# Altium schematic symbol library kmilo17pet-LT_PMIC_LT.SchLib: 2252 symbols (part 72 of 124)
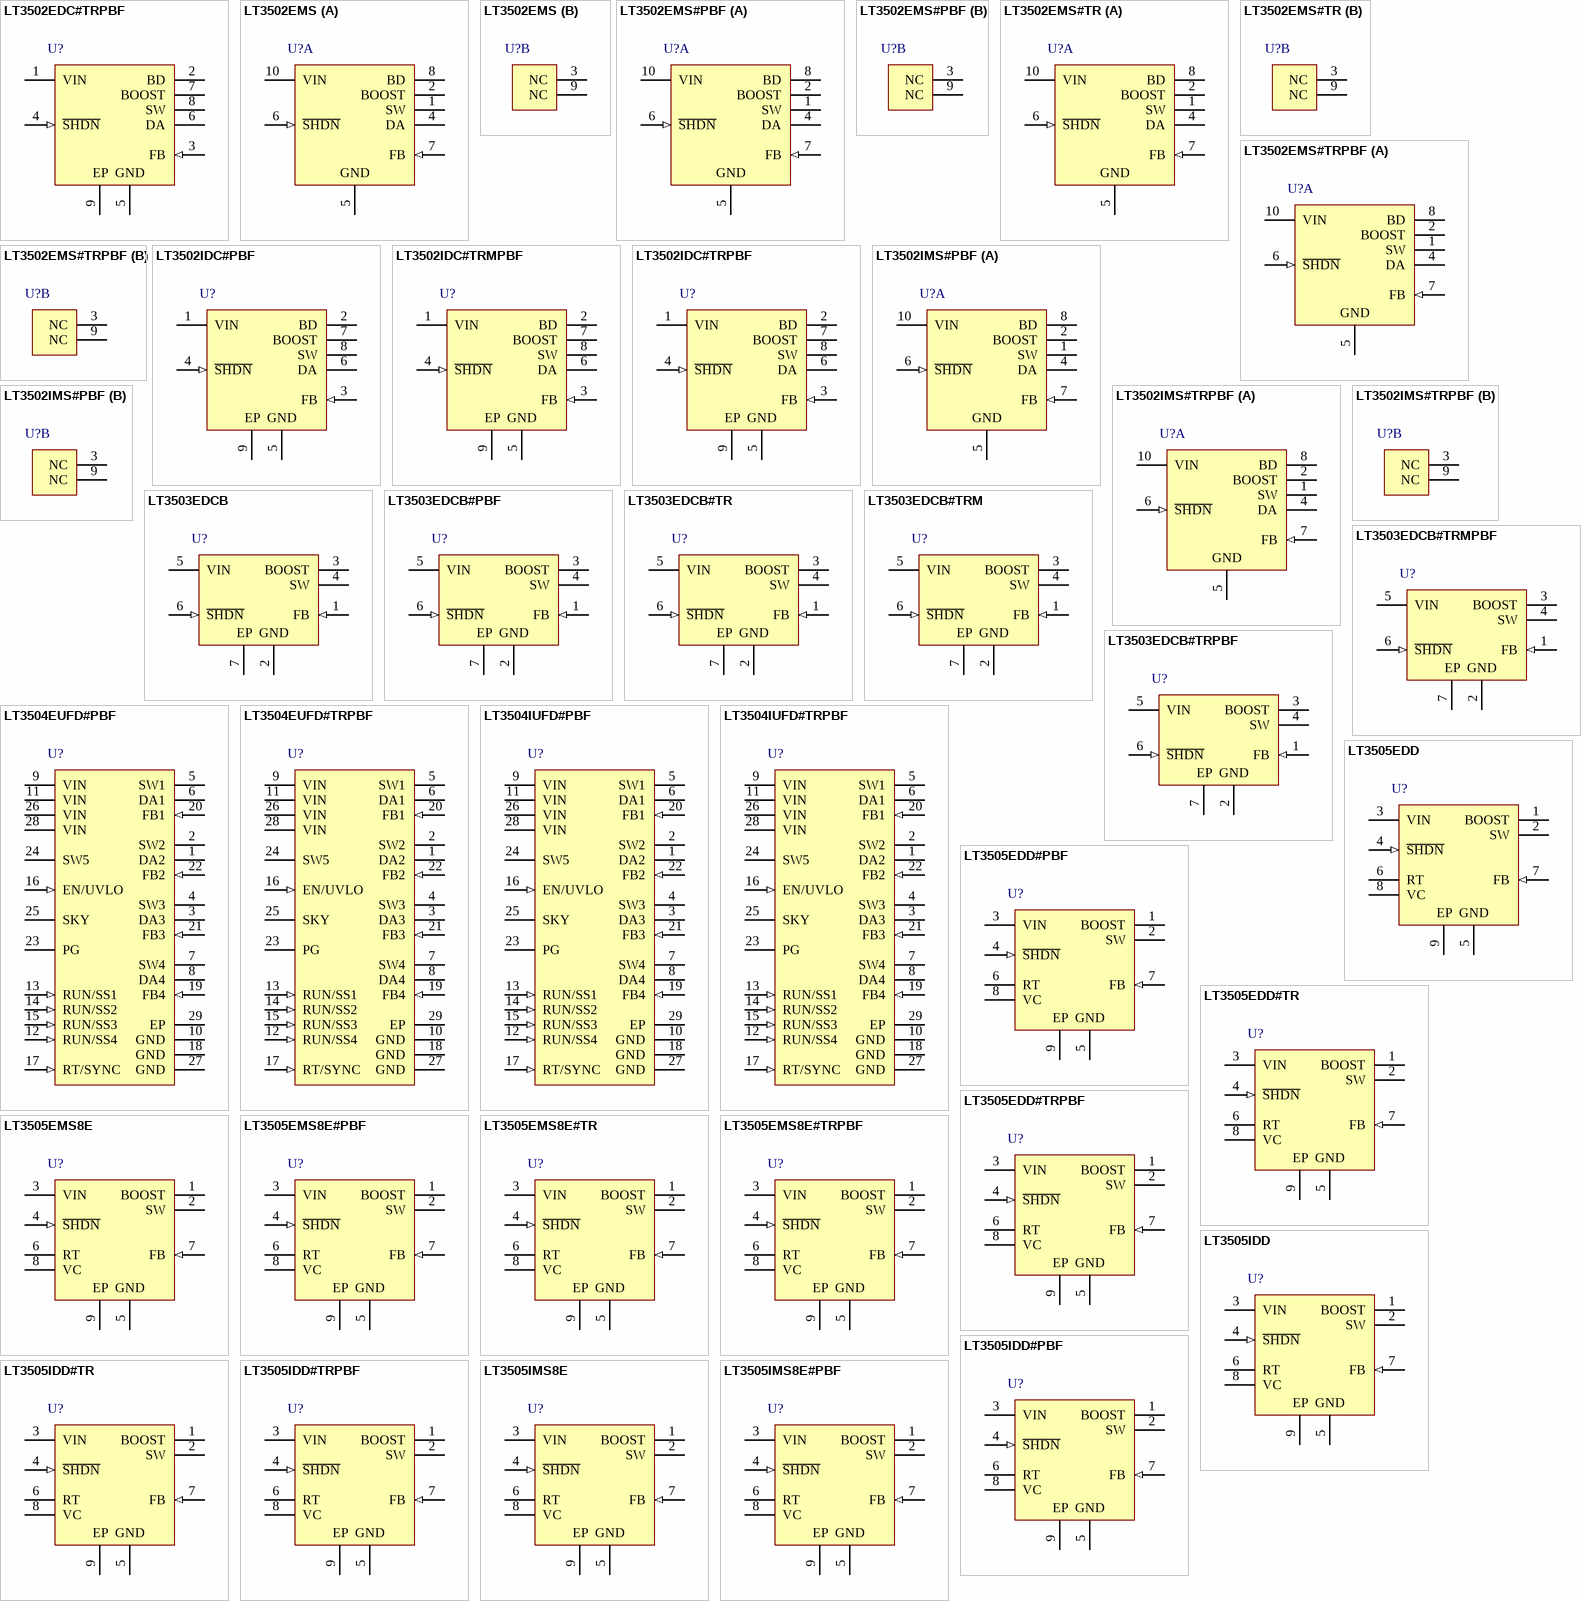
[diagram p142: symbols LT3502EDC#TRPBF to LT3505IMS8E#PBF]

## LT3502IDC#TRMPBF
designator U?
1.1 MHz / 2.2 MHz, 500 mA Step-Down Regulator, 8-pin SON (DC8), -40 to 125 degC, Pb-Free, Mini Tape and Reel; Manufacturer: Linear Technology; PartNumber: LT3502IDC#TRMPBF; Number of Outputs: 1; PackageReference: DC8; PackageDescription: 8-Pin Plastic DFN, Body 2 x 2 mm, Pitch 0.45 mm; Supplier 1: Digi-Key; Supplier Part Number 1: LT3502IDC#TRMPBFTR-ND; RoHS: TRUE
footprint LT-DC8_V (SON, 8-Leads, Body 2x2mm, Pitch 0.45mm, Thermal Pad 1.37x0.64mm, Recommended)
pins: 1 VIN (power) "The VIN pin supplies current to the LT3502/LT3502A’s internal regulator and to the internal power switch. This pin must be locally bypassed.", 2 BD (power) "The BD pin is used to provide current to the internal boost Schottky diode.", 3 FB (in) "The LT3502/LT3502A regulate their feedback pin to 0.8V. Connect the feedback resistor divider tap to this pin. Set the output voltage according to VOUT = 0.8 (1 + R1/R2). A good value for R2 is 10k.", 4 ~{SHDN} (in) "The S\H\D\N\ pin is used to put the LT3502 in shutdown mode. Tie to ground to shut down the LT3502/LT3502A. Tie to 2V or more for normal operation. If the shutdown feature is not used, tie this pin to the VIN pin. The (See Datasheet)", 5 GND (power) "Ground Pin.", 6 DA "Connect the catch diode (D1) anode to this pin. This pin is used to provide frequency foldback in extreme situations.", 7 BOOST "The BOOST pin is used to provide a drive voltage, higher than the input voltage, to the internal bipolar NPN power switch. Connect a boost capacitor from this pin to SW Pin.", 8 SW (power) "The SW pin is the output of the internal power switch. Connect this pin to the inductor, catch diode and boost capacitor.", 9 EP (power) "EXPOSED PAD (PIN 9) IS GND, MUST BE SOLDERED TO PCB"

## LT3502IDC#TRPBF
designator U?
1.1 MHz / 2.2 MHz, 500 mA Step-Down Regulator, 8-pin SON (DC8), -40 to 125 degC, Pb-Free, Tape and Reel; Manufacturer: Linear Technology; PartNumber: LT3502IDC#TRPBF; Number of Outputs: 1; PackageReference: DC8-8; PackageDescription: 8-Pin Plastic DFN, Body 2 x 2 mm, Pitch 0.45 mm; Supplier 1: Digi-Key; Supplier Part Number 1: LT3502IDC#TRPBF-ND; RoHS: TRUE
footprint LT-DC8-8_V (SON, 8-Leads, Body 2x2mm, Pitch 0.45mm, Thermal Pad 1.37x0.64mm)
pins: 1 VIN (power) "The VIN pin supplies current to the LT3502/LT3502A’s internal regulator and to the internal power switch. This pin must be locally bypassed.", 2 BD (power) "The BD pin is used to provide current to the internal boost Schottky diode.", 3 FB (in) "The LT3502/LT3502A regulate their feedback pin to 0.8V. Connect the feedback resistor divider tap to this pin. Set the output voltage according to VOUT = 0.8 (1 + R1/R2). A good value for R2 is 10k.", 4 ~{SHDN} (in) "The S\H\D\N\ pin is used to put the LT3502 in shutdown mode. Tie to ground to shut down the LT3502/LT3502A. Tie to 2V or more for normal operation. If the shutdown feature is not used, tie this pin to the VIN pin. The (See Datasheet)", 5 GND (power) "Ground Pin.", 6 DA "Connect the catch diode (D1) anode to this pin. This pin is used to provide frequency foldback in extreme situations.", 7 BOOST "The BOOST pin is used to provide a drive voltage, higher than the input voltage, to the internal bipolar NPN power switch. Connect a boost capacitor from this pin to SW Pin.", 8 SW (power) "The SW pin is the output of the internal power switch. Connect this pin to the inductor, catch diode and boost capacitor.", 9 EP (power) "EXPOSED PAD (PIN 9) IS GND, MUST BE SOLDERED TO PCB"

## LT3502IMS#PBF
designator U?
1.1 MHz / 2.2 MHz, 500 mA Step-Down Regulator, 10-pin SOP (MS-10), -40 to 125 degC, Pb-Free; Manufacturer: Linear Technology; PartNumber: LT3502IMS#PBF; Number of Outputs: 1; PackageReference: MS-10; PackageDescription: 10-Pin Plastic MSOP, Body 3 x 3 mm, Pitch 0.5 mm; Supplier 1: Digi-Key; Supplier Part Number 1: LT3502IMS#PBF-ND; RoHS: TRUE
footprint LT-MS-10_N (SOP, 10-Leads, Body 3.1x3.1mm, Pitch 0.5mm, IPC Medium Density)
footprint LT-MS-10_L (SOP, 10-Leads, Body 3.1x3.1mm, Pitch 0.5mm, IPC High Density)
footprint LT-MS-10_M (SOP, 10-Leads, Body 3.1x3.1mm, Pitch 0.5mm, IPC Low Density)
part A pins: 1 SW (power) "The SW pin is the output of the internal power switch. Connect this pin to the inductor, catch diode and boost capacitor.", 2 BOOST "The BOOST pin is used to provide a drive voltage, higher than the input voltage, to the internal bipolar NPN power switch. Connect a boost capacitor from this pin to SW Pin.", 4 DA "Connect the catch diode (D1) anode to this pin. This pin is used to provide frequency foldback in extreme situations.", 5 GND (power) "Ground Pin.", 6 ~{SHDN} (in) "The S\H\D\N\ pin is used to put the LT3502 in shutdown mode. Tie to ground to shut down the LT3502/LT3502A. Tie to 2V or more for normal operation. If the shutdown feature is not used, tie this pin to the VIN pin. The (See Datasheet)", 7 FB (in) "The LT3502/LT3502A regulate their feedback pin to 0.8V. Connect the feedback resistor divider tap to this pin. Set the output voltage according to VOUT = 0.8 (1 + R1/R2). A good value for R2 is 10k.", 8 BD (power) "The BD pin is used to provide current to the internal boost Schottky diode.", 10 VIN (power) "The VIN pin supplies current to the LT3502/LT3502A’s internal regulator and to the internal power switch. This pin must be locally bypassed."
part B pins: 3 NC, 9 NC

## LT3502IMS#TRPBF
designator U?
1.1 MHz / 2.2 MHz, 500 mA Step-Down Regulator, 10-pin SOP (MS-10), -40 to 125 degC, Pb-Free, Tape and Reel; Manufacturer: Linear Technology; PartNumber: LT3502IMS#TRPBF; Number of Outputs: 1; PackageReference: MS-10; PackageDescription: 10-Pin Plastic MSOP, Body 3 x 3 mm, Pitch 0.5 mm; Supplier 1: Digi-Key; Supplier Part Number 1: LT3502IMS#TRPBF-ND; RoHS: TRUE
footprint LT-MS-10_N (SOP, 10-Leads, Body 3.1x3.1mm, Pitch 0.5mm, IPC Medium Density)
footprint LT-MS-10_L (SOP, 10-Leads, Body 3.1x3.1mm, Pitch 0.5mm, IPC High Density)
footprint LT-MS-10_M (SOP, 10-Leads, Body 3.1x3.1mm, Pitch 0.5mm, IPC Low Density)
part A pins: 1 SW (power) "The SW pin is the output of the internal power switch. Connect this pin to the inductor, catch diode and boost capacitor.", 2 BOOST "The BOOST pin is used to provide a drive voltage, higher than the input voltage, to the internal bipolar NPN power switch. Connect a boost capacitor from this pin to SW Pin.", 4 DA "Connect the catch diode (D1) anode to this pin. This pin is used to provide frequency foldback in extreme situations.", 5 GND (power) "Ground Pin.", 6 ~{SHDN} (in) "The S\H\D\N\ pin is used to put the LT3502 in shutdown mode. Tie to ground to shut down the LT3502/LT3502A. Tie to 2V or more for normal operation. If the shutdown feature is not used, tie this pin to the VIN pin. The (See Datasheet)", 7 FB (in) "The LT3502/LT3502A regulate their feedback pin to 0.8V. Connect the feedback resistor divider tap to this pin. Set the output voltage according to VOUT = 0.8 (1 + R1/R2). A good value for R2 is 10k.", 8 BD (power) "The BD pin is used to provide current to the internal boost Schottky diode.", 10 VIN (power) "The VIN pin supplies current to the LT3502/LT3502A’s internal regulator and to the internal power switch. This pin must be locally bypassed."
part B pins: 3 NC, 9 NC

## LT3503EDCB
designator U?
1 A, 2.2 MHz Step-Down Switching Regulator, 6-pin SON (DCB-6), -40 to 85 degC; Manufacturer: Linear Technology; PartNumber: LT3503EDCB; Number of Outputs: 1; PackageReference: DCB-6; PackageDescription: 6-Pin Plastic DFN, Body 2 x 3 mm, Pitch 0.5 mm; RoHS: FALSE
footprint LT-DCB-6_V (SON, 6-Leads, Body 3x2mm, Pitch 0.5mm, Thermal Pad 1.65x1.35mm)
pins: 1 FB (in) "The LT3503 regulates its feedback pin to 780mV. Connect the feedback resistor divider tap to this pin.", 2 GND (power) "Tie the GND pin to a local ground plane below the LT3503 and the circuit components. Return the feedback divider to this pin.", 3 BOOST "The BOOST pin is used to provide a drive voltage, higher than the input voltage, to the internal bipolar NPN power switch.", 4 SW (power) "The SW pin is the output of the internal power switch. Connect this pin to the inductor, catch diode and boost capacitor.", 5 VIN (power) "The VIN pin supplies current to the LT3503’s internal regulator and to the internal power switch. This pin must be locally bypassed.", 6 ~{SHDN} (in) "The S\H\D\N\ pin is used to put the LT3503 in shutdown mode. Tie to ground to shut down the LT3503. Tie to 2.3V or more for normal operation. If the shutdown feature is not used, tie this pin to the VIN pin. S\H\D\N\ also (See Datasheet)", 7 EP (power) "The Exposed Pad must be soldered to the PCB and electrically connected to ground. Use a large ground plane and thermal vias to optimize thermal performance."

## LT3503EDCB#PBF
designator U?
1 A, 2.2 MHz Step-Down Switching Regulator, 6-pin SON (DCB-6), -40 to 85 degC, Pb-Free; Manufacturer: Linear Technology; PartNumber: LT3503EDCB#PBF; Number of Outputs: 1; PackageReference: DCB-6; PackageDescription: 6-Pin Plastic DFN, Body 2 x 3 mm, Pitch 0.5 mm; Supplier 1: Farnell; Supplier Part Number 1: 1329360; RoHS: TRUE
footprint LT-DCB-6_V (SON, 6-Leads, Body 3x2mm, Pitch 0.5mm, Thermal Pad 1.65x1.35mm)
pins: 1 FB (in) "The LT3503 regulates its feedback pin to 780mV. Connect the feedback resistor divider tap to this pin.", 2 GND (power) "Tie the GND pin to a local ground plane below the LT3503 and the circuit components. Return the feedback divider to this pin.", 3 BOOST "The BOOST pin is used to provide a drive voltage, higher than the input voltage, to the internal bipolar NPN power switch.", 4 SW (power) "The SW pin is the output of the internal power switch. Connect this pin to the inductor, catch diode and boost capacitor.", 5 VIN (power) "The VIN pin supplies current to the LT3503’s internal regulator and to the internal power switch. This pin must be locally bypassed.", 6 ~{SHDN} (in) "The S\H\D\N\ pin is used to put the LT3503 in shutdown mode. Tie to ground to shut down the LT3503. Tie to 2.3V or more for normal operation. If the shutdown feature is not used, tie this pin to the VIN pin. S\H\D\N\ also (See Datasheet)", 7 EP (power) "The Exposed Pad must be soldered to the PCB and electrically connected to ground. Use a large ground plane and thermal vias to optimize thermal performance."

## LT3503EDCB#TR
designator U?
1 A, 2.2 MHz Step-Down Switching Regulator, 6-pin SON (DCB-6), -40 to 85 degC, Tape and Reel; Manufacturer: Linear Technology; PartNumber: LT3503EDCB#TR; Number of Outputs: 1; PackageReference: DCB-6; PackageDescription: 6-Pin Plastic DFN, Body 2 x 3 mm, Pitch 0.5 mm; RoHS: FALSE
footprint LT-DCB-6_V (SON, 6-Leads, Body 3x2mm, Pitch 0.5mm, Thermal Pad 1.65x1.35mm)
pins: 1 FB (in) "The LT3503 regulates its feedback pin to 780mV. Connect the feedback resistor divider tap to this pin.", 2 GND (power) "Tie the GND pin to a local ground plane below the LT3503 and the circuit components. Return the feedback divider to this pin.", 3 BOOST "The BOOST pin is used to provide a drive voltage, higher than the input voltage, to the internal bipolar NPN power switch.", 4 SW (power) "The SW pin is the output of the internal power switch. Connect this pin to the inductor, catch diode and boost capacitor.", 5 VIN (power) "The VIN pin supplies current to the LT3503’s internal regulator and to the internal power switch. This pin must be locally bypassed.", 6 ~{SHDN} (in) "The S\H\D\N\ pin is used to put the LT3503 in shutdown mode. Tie to ground to shut down the LT3503. Tie to 2.3V or more for normal operation. If the shutdown feature is not used, tie this pin to the VIN pin. S\H\D\N\ also (See Datasheet)", 7 EP (power) "The Exposed Pad must be soldered to the PCB and electrically connected to ground. Use a large ground plane and thermal vias to optimize thermal performance."

## LT3503EDCB#TRM
designator U?
1 A, 2.2 MHz Step-Down Switching Regulator, 6-pin SON (DCB-6), -40 to 85 degC, Mini Tape and Reel; Manufacturer: Linear Technology; PartNumber: LT3503EDCB#TRM; Number of Outputs: 1; PackageReference: DCB-6; PackageDescription: 6-Pin Plastic DFN, Body 2 x 3 mm, Pitch 0.5 mm; RoHS: FALSE
footprint LT-DCB-6_V (SON, 6-Leads, Body 3x2mm, Pitch 0.5mm, Thermal Pad 1.65x1.35mm)
pins: 1 FB (in) "The LT3503 regulates its feedback pin to 780mV. Connect the feedback resistor divider tap to this pin.", 2 GND (power) "Tie the GND pin to a local ground plane below the LT3503 and the circuit components. Return the feedback divider to this pin.", 3 BOOST "The BOOST pin is used to provide a drive voltage, higher than the input voltage, to the internal bipolar NPN power switch.", 4 SW (power) "The SW pin is the output of the internal power switch. Connect this pin to the inductor, catch diode and boost capacitor.", 5 VIN (power) "The VIN pin supplies current to the LT3503’s internal regulator and to the internal power switch. This pin must be locally bypassed.", 6 ~{SHDN} (in) "The S\H\D\N\ pin is used to put the LT3503 in shutdown mode. Tie to ground to shut down the LT3503. Tie to 2.3V or more for normal operation. If the shutdown feature is not used, tie this pin to the VIN pin. S\H\D\N\ also (See Datasheet)", 7 EP (power) "The Exposed Pad must be soldered to the PCB and electrically connected to ground. Use a large ground plane and thermal vias to optimize thermal performance."

## LT3503EDCB#TRMPBF
designator U?
1 A, 2.2 MHz Step-Down Switching Regulator, 6-pin SON (DCB-6), -40 to 85 degC, Pb-Free, Mini Tape and Reel; Manufacturer: Linear Technology; PartNumber: LT3503EDCB#TRMPBF; Number of Outputs: 1; PackageReference: DCB-6; PackageDescription: 6-Pin Plastic DFN, Body 2 x 3 mm, Pitch 0.5 mm; Supplier 1: Digi-Key; Supplier Part Number 1: LT3503EDCB#TRMPBFTR-ND; RoHS: TRUE
footprint LT-DCB-6_V (SON, 6-Leads, Body 3x2mm, Pitch 0.5mm, Thermal Pad 1.65x1.35mm)
pins: 1 FB (in) "The LT3503 regulates its feedback pin to 780mV. Connect the feedback resistor divider tap to this pin.", 2 GND (power) "Tie the GND pin to a local ground plane below the LT3503 and the circuit components. Return the feedback divider to this pin.", 3 BOOST "The BOOST pin is used to provide a drive voltage, higher than the input voltage, to the internal bipolar NPN power switch.", 4 SW (power) "The SW pin is the output of the internal power switch. Connect this pin to the inductor, catch diode and boost capacitor.", 5 VIN (power) "The VIN pin supplies current to the LT3503’s internal regulator and to the internal power switch. This pin must be locally bypassed.", 6 ~{SHDN} (in) "The S\H\D\N\ pin is used to put the LT3503 in shutdown mode. Tie to ground to shut down the LT3503. Tie to 2.3V or more for normal operation. If the shutdown feature is not used, tie this pin to the VIN pin. S\H\D\N\ also (See Datasheet)", 7 EP (power) "The Exposed Pad must be soldered to the PCB and electrically connected to ground. Use a large ground plane and thermal vias to optimize thermal performance."

## LT3503EDCB#TRPBF
designator U?
1 A, 2.2 MHz Step-Down Switching Regulator, 6-pin SON (DCB-6), -40 to 85 degC, Pb-Free, Tape and Reel; Manufacturer: Linear Technology; PartNumber: LT3503EDCB#TRPBF; Number of Outputs: 1; PackageReference: DCB-6; PackageDescription: 6-Pin Plastic DFN, Body 2 x 3 mm, Pitch 0.5 mm; Supplier 1: Digi-Key; Supplier Part Number 1: LT3503EDCB#TRPBF-ND; RoHS: TRUE
footprint LT-DCB-6_V (SON, 6-Leads, Body 3x2mm, Pitch 0.5mm, Thermal Pad 1.65x1.35mm)
pins: 1 FB (in) "The LT3503 regulates its feedback pin to 780mV. Connect the feedback resistor divider tap to this pin.", 2 GND (power) "Tie the GND pin to a local ground plane below the LT3503 and the circuit components. Return the feedback divider to this pin.", 3 BOOST "The BOOST pin is used to provide a drive voltage, higher than the input voltage, to the internal bipolar NPN power switch.", 4 SW (power) "The SW pin is the output of the internal power switch. Connect this pin to the inductor, catch diode and boost capacitor.", 5 VIN (power) "The VIN pin supplies current to the LT3503’s internal regulator and to the internal power switch. This pin must be locally bypassed.", 6 ~{SHDN} (in) "The S\H\D\N\ pin is used to put the LT3503 in shutdown mode. Tie to ground to shut down the LT3503. Tie to 2.3V or more for normal operation. If the shutdown feature is not used, tie this pin to the VIN pin. S\H\D\N\ also (See Datasheet)", 7 EP (power) "The Exposed Pad must be soldered to the PCB and electrically connected to ground. Use a large ground plane and thermal vias to optimize thermal performance."

## LT3504EUFD#PBF
designator U?
Quad 40 V / 1 A Step-Down Switching Regulator with 100% Duty Cycle Operation, 28-pin QFN (UFD-28), -40 to 125 degC, Pb-Free; Manufacturer: Linear Technology; PartNumber: LT3504EUFD#PBF; Number of Outputs: 4; PackageReference: UFD-28; PackageDescription: 28-Pin Plastic QFN, Body 5 x 4 mm, Pitch 0.5 mm; Supplier 1: Digi-Key; Supplier Part Number 1: LT3504EUFD#PBF-ND; RoHS: TRUE
footprint LT-UFD-28_N (QFN, 28-Leads, Body 5.1x4.1mm, Pitch 0.5mm, Thermal Pad 3.65x2.65mm, IPC Medium Density)
footprint LT-UFD-28_L (QFN, 28-Leads, Body 5.1x4.1mm, Pitch 0.5mm, Thermal Pad 3.65x2.65mm, IPC High Density)
footprint LT-UFD-28_M (QFN, 28-Leads, Body 5.1x4.1mm, Pitch 0.5mm, Thermal Pad 3.65x2.65mm, IPC Low Density)
pins: 1 DA2 "Return the Schottky catch diode anode to the diode anode (DA) pin. An internal comparator senses the diode current and prevents switching when the diode current is higher than the DA pin current limit.", 2 SW2 (power) "The SW pins are the output of the internal power switches. Connect each SW pin to an inductor and Schottky catch diode cathode.", 3 DA3 "Return the Schottky catch diode anode to the diode anode (DA) pin. An internal comparator senses the diode current and prevents switching when the diode current is higher than the DA pin current limit.", 4 SW3 (power) "The SW pins are the output of the internal power switches. Connect each SW pin to an inductor and Schottky catch diode cathode.", 5 SW1 (power) "The SW pins are the output of the internal power switches. Connect each SW pin to an inductor and Schottky catch diode cathode.", 6 DA1 "Return the Schottky catch diode anode to the diode anode (DA) pin. An internal comparator senses the diode current and prevents switching when the diode current is higher than the DA pin current limit.", 7 SW4 (power) "The SW pins are the output of the internal power switches. Connect each SW pin to an inductor and Schottky catch diode cathode.", 8 DA4 "Return the Schottky catch diode anode to the diode anode (DA) pin. An internal comparator senses the diode current and prevents switching when the diode current is higher than the DA pin current limit.", 9 VIN (power) "The VIN pins supply current to the LT3504’s internal regulator and to the internal power switches. The VIN pins should be tied together and locally bypassed with a capacitor to ground, preferably to pins 10 and 27.", 10 GND (power) "Tie the GND pins to a local ground plane below the LT3504 and the circuit components. The exposed pad must be soldered to the PCB and electrically connected to ground. Use a large ground plane and thermal vias to optimize (See Datasheet)", 11 VIN (power) "The VIN pins supply current to the LT3504’s internal regulator and to the internal power switches. The VIN pins should be tied together and locally bypassed with a capacitor to ground, preferably to pins 10 and 27.", 12 RUN/SS4 (in) "The RUN/SS pins are used to soft start each channel and to allow each channel to track other outputs. Output tracking is implemented by connecting a resistor divider to this pin from the tracked output. For soft start, tie a (See Datasheet)", 13 RUN/SS1 (in) "The RUN/SS pins are used to soft start each channel and to allow each channel to track other outputs. Output tracking is implemented by connecting a resistor divider to this pin from the tracked output. For soft start, tie a (See Datasheet)", 14 RUN/SS2 (in) "The RUN/SS pins are used to soft start each channel and to allow each channel to track other outputs. Output tracking is implemented by connecting a resistor divider to this pin from the tracked output. For soft start, tie a (See Datasheet)", 15 RUN/SS3 (in) "The RUN/SS pins are used to soft start each channel and to allow each channel to track other outputs. Output tracking is implemented by connecting a resistor divider to this pin from the tracked output. For soft start, tie a (See Datasheet)", 16 EN/UVLO (in) "The EN/UVLO pin is used to start up the internal regulator to power the reference and oscillator. It also starts up the internal boost regulator. Pull the EN/UVLO pin below 1.44V to shut down the LT3504. The LT3504 will draw (See Datasheet)", 17 RT/SYNC (in) "Set the switching frequency of the LT3504 by tying an external resistor from this pin to ground. Select the value of the programming resistor (RT) according to Table 1 in the Applications Information section. The RT/SYNC pin (See Datasheet)", 18 GND (power) "Tie the GND pins to a local ground plane below the LT3504 and the circuit components. The exposed pad must be soldered to the PCB and electrically connected to ground. Use a large ground plane and thermal vias to optimize (See Datasheet)", 19 FB4 (in) "Each feedback pin is regulated to 800mV. Connect the feedback resistor divider to this pin. The output voltage is programmed according to the following equation: R1= R2 ?(VOUT/0.8V - 1)  where R1 connects between (See Datasheet)", 20 FB1 (in) "Each feedback pin is regulated to 800mV. Connect the feedback resistor divider to this pin. The output voltage is programmed according to the following equation: R1= R2 ?(VOUT/0.8V - 1)  where R1 connects between (See Datasheet)", 21 FB3 (in) "Each feedback pin is regulated to 800mV. Connect the feedback resistor divider to this pin. The output voltage is programmed according to the following equation: R1= R2 ?(VOUT/0.8V - 1)  where R1 connects between (See Datasheet)", 22 FB2 (in) "Each feedback pin is regulated to 800mV. Connect the feedback resistor divider to this pin. The output voltage is programmed according to the following equation: R1= R2 ?(VOUT/0.8V - 1)  where R1 connects between (See Datasheet)", 23 PG (oc) "The Power Good pin is the open collector output of an internal comparator. PG remains low until all FB pins are greater than 710mV. If not in use, this pin can be left unconnected. The PG comparator is disabled in shutdown.", 24 SW5 "The SW5 pin is an open collector of an internal boost regulator power switch. This power switch generates the drive voltage 4.85V above the input voltage (VIN), to drive the internal buck regulator power switches. Connect an (See Datasheet)", 25 SKY (power) "The SKY pin is the output of an integrated power Schottky diode and is the source of drive voltage to the internal buck regulator power switches. Connect a 1uF capacitor from this pin to the VIN pin. Do not drive this pin (See Datasheet)", 26 VIN (power) "The VIN pins supply current to the LT3504’s internal regulator and to the internal power switches. The VIN pins should be tied together and locally bypassed with a capacitor to ground, preferably to pins 10 and 27.", 27 GND (power) "Tie the GND pins to a local ground plane below the LT3504 and the circuit components. The exposed pad must be soldered to the PCB and electrically connected to ground. Use a large ground plane and thermal vias to optimize (See Datasheet)", 28 VIN (power) "The VIN pins supply current to the LT3504’s internal regulator and to the internal power switches. The VIN pins should be tied together and locally bypassed with a capacitor to ground, preferably to pins 10 and 27.", 29 EP (power) "Tie the GND pins to a local ground plane below the LT3504 and the circuit components. The exposed pad must be soldered to the PCB and electrically connected to ground. Use a large ground plane and thermal vias to optimize (See Datasheet)"

## LT3504EUFD#TRPBF
designator U?
Quad 40 V / 1 A Step-Down Switching Regulator with 100% Duty Cycle Operation, 28-pin QFN (UFD-28), -40 to 125 degC, Pb-Free, Tape and Reel; Manufacturer: Linear Technology; PartNumber: LT3504EUFD#TRPBF; Number of Outputs: 4; PackageReference: UFD-28; PackageDescription: 28-Pin Plastic QFN, Body 5 x 4 mm, Pitch 0.5 mm; Supplier 1: Digi-Key; Supplier Part Number 1: LT3504EUFD#TRPBF-ND; RoHS: TRUE
footprint LT-UFD-28_N (QFN, 28-Leads, Body 5.1x4.1mm, Pitch 0.5mm, Thermal Pad 3.65x2.65mm, IPC Medium Density)
footprint LT-UFD-28_L (QFN, 28-Leads, Body 5.1x4.1mm, Pitch 0.5mm, Thermal Pad 3.65x2.65mm, IPC High Density)
footprint LT-UFD-28_M (QFN, 28-Leads, Body 5.1x4.1mm, Pitch 0.5mm, Thermal Pad 3.65x2.65mm, IPC Low Density)
pins: 1 DA2 "Return the Schottky catch diode anode to the diode anode (DA) pin. An internal comparator senses the diode current and prevents switching when the diode current is higher than the DA pin current limit.", 2 SW2 (power) "The SW pins are the output of the internal power switches. Connect each SW pin to an inductor and Schottky catch diode cathode.", 3 DA3 "Return the Schottky catch diode anode to the diode anode (DA) pin. An internal comparator senses the diode current and prevents switching when the diode current is higher than the DA pin current limit.", 4 SW3 (power) "The SW pins are the output of the internal power switches. Connect each SW pin to an inductor and Schottky catch diode cathode.", 5 SW1 (power) "The SW pins are the output of the internal power switches. Connect each SW pin to an inductor and Schottky catch diode cathode.", 6 DA1 "Return the Schottky catch diode anode to the diode anode (DA) pin. An internal comparator senses the diode current and prevents switching when the diode current is higher than the DA pin current limit.", 7 SW4 (power) "The SW pins are the output of the internal power switches. Connect each SW pin to an inductor and Schottky catch diode cathode.", 8 DA4 "Return the Schottky catch diode anode to the diode anode (DA) pin. An internal comparator senses the diode current and prevents switching when the diode current is higher than the DA pin current limit.", 9 VIN (power) "The VIN pins supply current to the LT3504’s internal regulator and to the internal power switches. The VIN pins should be tied together and locally bypassed with a capacitor to ground, preferably to pins 10 and 27.", 10 GND (power) "Tie the GND pins to a local ground plane below the LT3504 and the circuit components. The exposed pad must be soldered to the PCB and electrically connected to ground. Use a large ground plane and thermal vias to optimize (See Datasheet)", 11 VIN (power) "The VIN pins supply current to the LT3504’s internal regulator and to the internal power switches. The VIN pins should be tied together and locally bypassed with a capacitor to ground, preferably to pins 10 and 27.", 12 RUN/SS4 (in) "The RUN/SS pins are used to soft start each channel and to allow each channel to track other outputs. Output tracking is implemented by connecting a resistor divider to this pin from the tracked output. For soft start, tie a (See Datasheet)", 13 RUN/SS1 (in) "The RUN/SS pins are used to soft start each channel and to allow each channel to track other outputs. Output tracking is implemented by connecting a resistor divider to this pin from the tracked output. For soft start, tie a (See Datasheet)", 14 RUN/SS2 (in) "The RUN/SS pins are used to soft start each channel and to allow each channel to track other outputs. Output tracking is implemented by connecting a resistor divider to this pin from the tracked output. For soft start, tie a (See Datasheet)", 15 RUN/SS3 (in) "The RUN/SS pins are used to soft start each channel and to allow each channel to track other outputs. Output tracking is implemented by connecting a resistor divider to this pin from the tracked output. For soft start, tie a (See Datasheet)", 16 EN/UVLO (in) "The EN/UVLO pin is used to start up the internal regulator to power the reference and oscillator. It also starts up the internal boost regulator. Pull the EN/UVLO pin below 1.44V to shut down the LT3504. The LT3504 will draw (See Datasheet)", 17 RT/SYNC (in) "Set the switching frequency of the LT3504 by tying an external resistor from this pin to ground. Select the value of the programming resistor (RT) according to Table 1 in the Applications Information section. The RT/SYNC pin (See Datasheet)", 18 GND (power) "Tie the GND pins to a local ground plane below the LT3504 and the circuit components. The exposed pad must be soldered to the PCB and electrically connected to ground. Use a large ground plane and thermal vias to optimize (See Datasheet)", 19 FB4 (in) "Each feedback pin is regulated to 800mV. Connect the feedback resistor divider to this pin. The output voltage is programmed according to the following equation: R1= R2 ?(VOUT/0.8V - 1)  where R1 connects between (See Datasheet)", 20 FB1 (in) "Each feedback pin is regulated to 800mV. Connect the feedback resistor divider to this pin. The output voltage is programmed according to the following equation: R1= R2 ?(VOUT/0.8V - 1)  where R1 connects between (See Datasheet)", 21 FB3 (in) "Each feedback pin is regulated to 800mV. Connect the feedback resistor divider to this pin. The output voltage is programmed according to the following equation: R1= R2 ?(VOUT/0.8V - 1)  where R1 connects between (See Datasheet)", 22 FB2 (in) "Each feedback pin is regulated to 800mV. Connect the feedback resistor divider to this pin. The output voltage is programmed according to the following equation: R1= R2 ?(VOUT/0.8V - 1)  where R1 connects between (See Datasheet)", 23 PG (oc) "The Power Good pin is the open collector output of an internal comparator. PG remains low until all FB pins are greater than 710mV. If not in use, this pin can be left unconnected. The PG comparator is disabled in shutdown.", 24 SW5 "The SW5 pin is an open collector of an internal boost regulator power switch. This power switch generates the drive voltage 4.85V above the input voltage (VIN), to drive the internal buck regulator power switches. Connect an (See Datasheet)", 25 SKY (power) "The SKY pin is the output of an integrated power Schottky diode and is the source of drive voltage to the internal buck regulator power switches. Connect a 1uF capacitor from this pin to the VIN pin. Do not drive this pin (See Datasheet)", 26 VIN (power) "The VIN pins supply current to the LT3504’s internal regulator and to the internal power switches. The VIN pins should be tied together and locally bypassed with a capacitor to ground, preferably to pins 10 and 27.", 27 GND (power) "Tie the GND pins to a local ground plane below the LT3504 and the circuit components. The exposed pad must be soldered to the PCB and electrically connected to ground. Use a large ground plane and thermal vias to optimize (See Datasheet)", 28 VIN (power) "The VIN pins supply current to the LT3504’s internal regulator and to the internal power switches. The VIN pins should be tied together and locally bypassed with a capacitor to ground, preferably to pins 10 and 27.", 29 EP (power) "Tie the GND pins to a local ground plane below the LT3504 and the circuit components. The exposed pad must be soldered to the PCB and electrically connected to ground. Use a large ground plane and thermal vias to optimize (See Datasheet)"

## LT3504IUFD#PBF
designator U?
Quad 40 V / 1 A Step-Down Switching Regulator with 100% Duty Cycle Operation, 28-pin QFN (UFD-28), -40 to 125 degC, Pb-Free; Manufacturer: Linear Technology; PartNumber: LT3504IUFD#PBF; Number of Outputs: 4; PackageReference: UFD-28; PackageDescription: 28-Pin Plastic QFN, Body 5 x 4 mm, Pitch 0.5 mm; Supplier 1: Digi-Key; Supplier Part Number 1: LT3504IUFD#PBF-ND; RoHS: TRUE
footprint LT-UFD-28_N (QFN, 28-Leads, Body 5.1x4.1mm, Pitch 0.5mm, Thermal Pad 3.65x2.65mm, IPC Medium Density)
footprint LT-UFD-28_L (QFN, 28-Leads, Body 5.1x4.1mm, Pitch 0.5mm, Thermal Pad 3.65x2.65mm, IPC High Density)
footprint LT-UFD-28_M (QFN, 28-Leads, Body 5.1x4.1mm, Pitch 0.5mm, Thermal Pad 3.65x2.65mm, IPC Low Density)
pins: 1 DA2 "Return the Schottky catch diode anode to the diode anode (DA) pin. An internal comparator senses the diode current and prevents switching when the diode current is higher than the DA pin current limit.", 2 SW2 (power) "The SW pins are the output of the internal power switches. Connect each SW pin to an inductor and Schottky catch diode cathode.", 3 DA3 "Return the Schottky catch diode anode to the diode anode (DA) pin. An internal comparator senses the diode current and prevents switching when the diode current is higher than the DA pin current limit.", 4 SW3 (power) "The SW pins are the output of the internal power switches. Connect each SW pin to an inductor and Schottky catch diode cathode.", 5 SW1 (power) "The SW pins are the output of the internal power switches. Connect each SW pin to an inductor and Schottky catch diode cathode.", 6 DA1 "Return the Schottky catch diode anode to the diode anode (DA) pin. An internal comparator senses the diode current and prevents switching when the diode current is higher than the DA pin current limit.", 7 SW4 (power) "The SW pins are the output of the internal power switches. Connect each SW pin to an inductor and Schottky catch diode cathode.", 8 DA4 "Return the Schottky catch diode anode to the diode anode (DA) pin. An internal comparator senses the diode current and prevents switching when the diode current is higher than the DA pin current limit.", 9 VIN (power) "The VIN pins supply current to the LT3504’s internal regulator and to the internal power switches. The VIN pins should be tied together and locally bypassed with a capacitor to ground, preferably to pins 10 and 27.", 10 GND (power) "Tie the GND pins to a local ground plane below the LT3504 and the circuit components. The exposed pad must be soldered to the PCB and electrically connected to ground. Use a large ground plane and thermal vias to optimize (See Datasheet)", 11 VIN (power) "The VIN pins supply current to the LT3504’s internal regulator and to the internal power switches. The VIN pins should be tied together and locally bypassed with a capacitor to ground, preferably to pins 10 and 27.", 12 RUN/SS4 (in) "The RUN/SS pins are used to soft start each channel and to allow each channel to track other outputs. Output tracking is implemented by connecting a resistor divider to this pin from the tracked output. For soft start, tie a (See Datasheet)", 13 RUN/SS1 (in) "The RUN/SS pins are used to soft start each channel and to allow each channel to track other outputs. Output tracking is implemented by connecting a resistor divider to this pin from the tracked output. For soft start, tie a (See Datasheet)", 14 RUN/SS2 (in) "The RUN/SS pins are used to soft start each channel and to allow each channel to track other outputs. Output tracking is implemented by connecting a resistor divider to this pin from the tracked output. For soft start, tie a (See Datasheet)", 15 RUN/SS3 (in) "The RUN/SS pins are used to soft start each channel and to allow each channel to track other outputs. Output tracking is implemented by connecting a resistor divider to this pin from the tracked output. For soft start, tie a (See Datasheet)", 16 EN/UVLO (in) "The EN/UVLO pin is used to start up the internal regulator to power the reference and oscillator. It also starts up the internal boost regulator. Pull the EN/UVLO pin below 1.44V to shut down the LT3504. The LT3504 will draw (See Datasheet)", 17 RT/SYNC (in) "Set the switching frequency of the LT3504 by tying an external resistor from this pin to ground. Select the value of the programming resistor (RT) according to Table 1 in the Applications Information section. The RT/SYNC pin (See Datasheet)", 18 GND (power) "Tie the GND pins to a local ground plane below the LT3504 and the circuit components. The exposed pad must be soldered to the PCB and electrically connected to ground. Use a large ground plane and thermal vias to optimize (See Datasheet)", 19 FB4 (in) "Each feedback pin is regulated to 800mV. Connect the feedback resistor divider to this pin. The output voltage is programmed according to the following equation: R1= R2 ?(VOUT/0.8V - 1)  where R1 connects between (See Datasheet)", 20 FB1 (in) "Each feedback pin is regulated to 800mV. Connect the feedback resistor divider to this pin. The output voltage is programmed according to the following equation: R1= R2 ?(VOUT/0.8V - 1)  where R1 connects between (See Datasheet)", 21 FB3 (in) "Each feedback pin is regulated to 800mV. Connect the feedback resistor divider to this pin. The output voltage is programmed according to the following equation: R1= R2 ?(VOUT/0.8V - 1)  where R1 connects between (See Datasheet)", 22 FB2 (in) "Each feedback pin is regulated to 800mV. Connect the feedback resistor divider to this pin. The output voltage is programmed according to the following equation: R1= R2 ?(VOUT/0.8V - 1)  where R1 connects between (See Datasheet)", 23 PG (oc) "The Power Good pin is the open collector output of an internal comparator. PG remains low until all FB pins are greater than 710mV. If not in use, this pin can be left unconnected. The PG comparator is disabled in shutdown.", 24 SW5 "The SW5 pin is an open collector of an internal boost regulator power switch. This power switch generates the drive voltage 4.85V above the input voltage (VIN), to drive the internal buck regulator power switches. Connect an (See Datasheet)", 25 SKY (power) "The SKY pin is the output of an integrated power Schottky diode and is the source of drive voltage to the internal buck regulator power switches. Connect a 1uF capacitor from this pin to the VIN pin. Do not drive this pin (See Datasheet)", 26 VIN (power) "The VIN pins supply current to the LT3504’s internal regulator and to the internal power switches. The VIN pins should be tied together and locally bypassed with a capacitor to ground, preferably to pins 10 and 27.", 27 GND (power) "Tie the GND pins to a local ground plane below the LT3504 and the circuit components. The exposed pad must be soldered to the PCB and electrically connected to ground. Use a large ground plane and thermal vias to optimize (See Datasheet)", 28 VIN (power) "The VIN pins supply current to the LT3504’s internal regulator and to the internal power switches. The VIN pins should be tied together and locally bypassed with a capacitor to ground, preferably to pins 10 and 27.", 29 EP (power) "Tie the GND pins to a local ground plane below the LT3504 and the circuit components. The exposed pad must be soldered to the PCB and electrically connected to ground. Use a large ground plane and thermal vias to optimize (See Datasheet)"

## LT3504IUFD#TRPBF
designator U?
Quad 40 V / 1 A Step-Down Switching Regulator with 100% Duty Cycle Operation, 28-pin QFN (UFD-28), -40 to 125 degC, Pb-Free, Tape and Reel; Manufacturer: Linear Technology; PartNumber: LT3504IUFD#TRPBF; Number of Outputs: 4; PackageReference: UFD-28; PackageDescription: 28-Pin Plastic QFN, Body 5 x 4 mm, Pitch 0.5 mm; Supplier 1: Digi-Key; Supplier Part Number 1: LT3504IUFD#TRPBF-ND; RoHS: TRUE
footprint LT-UFD-28_N (QFN, 28-Leads, Body 5.1x4.1mm, Pitch 0.5mm, Thermal Pad 3.65x2.65mm, IPC Medium Density)
footprint LT-UFD-28_L (QFN, 28-Leads, Body 5.1x4.1mm, Pitch 0.5mm, Thermal Pad 3.65x2.65mm, IPC High Density)
footprint LT-UFD-28_M (QFN, 28-Leads, Body 5.1x4.1mm, Pitch 0.5mm, Thermal Pad 3.65x2.65mm, IPC Low Density)
pins: 1 DA2 "Return the Schottky catch diode anode to the diode anode (DA) pin. An internal comparator senses the diode current and prevents switching when the diode current is higher than the DA pin current limit.", 2 SW2 (power) "The SW pins are the output of the internal power switches. Connect each SW pin to an inductor and Schottky catch diode cathode.", 3 DA3 "Return the Schottky catch diode anode to the diode anode (DA) pin. An internal comparator senses the diode current and prevents switching when the diode current is higher than the DA pin current limit.", 4 SW3 (power) "The SW pins are the output of the internal power switches. Connect each SW pin to an inductor and Schottky catch diode cathode.", 5 SW1 (power) "The SW pins are the output of the internal power switches. Connect each SW pin to an inductor and Schottky catch diode cathode.", 6 DA1 "Return the Schottky catch diode anode to the diode anode (DA) pin. An internal comparator senses the diode current and prevents switching when the diode current is higher than the DA pin current limit.", 7 SW4 (power) "The SW pins are the output of the internal power switches. Connect each SW pin to an inductor and Schottky catch diode cathode.", 8 DA4 "Return the Schottky catch diode anode to the diode anode (DA) pin. An internal comparator senses the diode current and prevents switching when the diode current is higher than the DA pin current limit.", 9 VIN (power) "The VIN pins supply current to the LT3504’s internal regulator and to the internal power switches. The VIN pins should be tied together and locally bypassed with a capacitor to ground, preferably to pins 10 and 27.", 10 GND (power) "Tie the GND pins to a local ground plane below the LT3504 and the circuit components. The exposed pad must be soldered to the PCB and electrically connected to ground. Use a large ground plane and thermal vias to optimize (See Datasheet)", 11 VIN (power) "The VIN pins supply current to the LT3504’s internal regulator and to the internal power switches. The VIN pins should be tied together and locally bypassed with a capacitor to ground, preferably to pins 10 and 27.", 12 RUN/SS4 (in) "The RUN/SS pins are used to soft start each channel and to allow each channel to track other outputs. Output tracking is implemented by connecting a resistor divider to this pin from the tracked output. For soft start, tie a (See Datasheet)", 13 RUN/SS1 (in) "The RUN/SS pins are used to soft start each channel and to allow each channel to track other outputs. Output tracking is implemented by connecting a resistor divider to this pin from the tracked output. For soft start, tie a (See Datasheet)", 14 RUN/SS2 (in) "The RUN/SS pins are used to soft start each channel and to allow each channel to track other outputs. Output tracking is implemented by connecting a resistor divider to this pin from the tracked output. For soft start, tie a (See Datasheet)", 15 RUN/SS3 (in) "The RUN/SS pins are used to soft start each channel and to allow each channel to track other outputs. Output tracking is implemented by connecting a resistor divider to this pin from the tracked output. For soft start, tie a (See Datasheet)", 16 EN/UVLO (in) "The EN/UVLO pin is used to start up the internal regulator to power the reference and oscillator. It also starts up the internal boost regulator. Pull the EN/UVLO pin below 1.44V to shut down the LT3504. The LT3504 will draw (See Datasheet)", 17 RT/SYNC (in) "Set the switching frequency of the LT3504 by tying an external resistor from this pin to ground. Select the value of the programming resistor (RT) according to Table 1 in the Applications Information section. The RT/SYNC pin (See Datasheet)", 18 GND (power) "Tie the GND pins to a local ground plane below the LT3504 and the circuit components. The exposed pad must be soldered to the PCB and electrically connected to ground. Use a large ground plane and thermal vias to optimize (See Datasheet)", 19 FB4 (in) "Each feedback pin is regulated to 800mV. Connect the feedback resistor divider to this pin. The output voltage is programmed according to the following equation: R1= R2 ?(VOUT/0.8V - 1)  where R1 connects between (See Datasheet)", 20 FB1 (in) "Each feedback pin is regulated to 800mV. Connect the feedback resistor divider to this pin. The output voltage is programmed according to the following equation: R1= R2 ?(VOUT/0.8V - 1)  where R1 connects between (See Datasheet)", 21 FB3 (in) "Each feedback pin is regulated to 800mV. Connect the feedback resistor divider to this pin. The output voltage is programmed according to the following equation: R1= R2 ?(VOUT/0.8V - 1)  where R1 connects between (See Datasheet)", 22 FB2 (in) "Each feedback pin is regulated to 800mV. Connect the feedback resistor divider to this pin. The output voltage is programmed according to the following equation: R1= R2 ?(VOUT/0.8V - 1)  where R1 connects between (See Datasheet)", 23 PG (oc) "The Power Good pin is the open collector output of an internal comparator. PG remains low until all FB pins are greater than 710mV. If not in use, this pin can be left unconnected. The PG comparator is disabled in shutdown.", 24 SW5 "The SW5 pin is an open collector of an internal boost regulator power switch. This power switch generates the drive voltage 4.85V above the input voltage (VIN), to drive the internal buck regulator power switches. Connect an (See Datasheet)", 25 SKY (power) "The SKY pin is the output of an integrated power Schottky diode and is the source of drive voltage to the internal buck regulator power switches. Connect a 1uF capacitor from this pin to the VIN pin. Do not drive this pin (See Datasheet)", 26 VIN (power) "The VIN pins supply current to the LT3504’s internal regulator and to the internal power switches. The VIN pins should be tied together and locally bypassed with a capacitor to ground, preferably to pins 10 and 27.", 27 GND (power) "Tie the GND pins to a local ground plane below the LT3504 and the circuit components. The exposed pad must be soldered to the PCB and electrically connected to ground. Use a large ground plane and thermal vias to optimize (See Datasheet)", 28 VIN (power) "The VIN pins supply current to the LT3504’s internal regulator and to the internal power switches. The VIN pins should be tied together and locally bypassed with a capacitor to ground, preferably to pins 10 and 27.", 29 EP (power) "Tie the GND pins to a local ground plane below the LT3504 and the circuit components. The exposed pad must be soldered to the PCB and electrically connected to ground. Use a large ground plane and thermal vias to optimize (See Datasheet)"

## LT3505EDD
designator U?
1.2 A, Step-Down Switching Regulator, 8-pin SON (DD-8), -40 to 85 degC; Manufacturer: Linear Technology; PartNumber: LT3505EDD; Number of Outputs: 1; PackageReference: DD-8; PackageDescription: 8-Pin Plastic DFN, Body 3 x 3 mm, Pitch 0.5 mm; RoHS: FALSE
footprint LT-DD-8_V (SON, 8-Leads, Body 3x3mm, Pitch 0.5mm, Thermal Pad 1.65x2.38 mm)
pins: 1 BOOST "The BOOST pin is used to provide a drive voltage, higher than the input voltage, to the internal bipolar NPN power switch.", 2 SW (power) "The SW pin is the output of the internal power switch. Connect this pin to the inductor, catch diode and boost capacitor.", 3 VIN (power) "The VIN pin supplies current to the LT3505’s internal regulator and to the internal power switch. This pin must be locally bypassed.", 4 ~{SHDN} (in) "The S\H\D\N\ pin is used to put the LT3505 in shutdown mode. Tie to ground to shut down the LT3505. Tie to 2.3V or more for normal operation. If the shutdown feature is not used, tie this pin to the VIN pin. S\H\D\N\ also (See Datasheet)", 5 GND (power) "Tie the GND pin to a local ground plane below the LT3505 and the circuit components. Return the feedback divider to this pin.", 6 RT "The RT pin is used to program the switching frequency of the LT3505 by connecting a resistor from this pin to ground. The Applications Information section of the data sheet includes a table to determine the resistance value (See Datasheet)", 7 FB (in) "The LT3505 regulates its feedback pin to 780mV. Connect the feedback resistor divider tap to this pin.", 8 VC "The VC pin is used to compensate the LT3505 control loop by tying an external RC network from this pin to ground.", 9 EP (power) "The Exposed Pad must be soldered to the PCB and electrically connected to ground. Use a large ground plane and thermal vias to optimize thermal performance."

## LT3505EDD#PBF
designator U?
1.2 A, Step-Down Switching Regulator, 8-pin SON (DD-8), -40 to 85 degC, Pb-Free; Manufacturer: Linear Technology; PartNumber: LT3505EDD#PBF; Number of Outputs: 1; PackageReference: DD-8; PackageDescription: 8-Pin Plastic DFN, Body 3 x 3 mm, Pitch 0.5 mm; Supplier 1: Digi-Key; Supplier Part Number 1: LT3505EDD#PBF-ND; RoHS: TRUE
footprint LT-DD-8_V (SON, 8-Leads, Body 3x3mm, Pitch 0.5mm, Thermal Pad 1.65x2.38 mm)
pins: 1 BOOST "The BOOST pin is used to provide a drive voltage, higher than the input voltage, to the internal bipolar NPN power switch.", 2 SW (power) "The SW pin is the output of the internal power switch. Connect this pin to the inductor, catch diode and boost capacitor.", 3 VIN (power) "The VIN pin supplies current to the LT3505’s internal regulator and to the internal power switch. This pin must be locally bypassed.", 4 ~{SHDN} (in) "The S\H\D\N\ pin is used to put the LT3505 in shutdown mode. Tie to ground to shut down the LT3505. Tie to 2.3V or more for normal operation. If the shutdown feature is not used, tie this pin to the VIN pin. S\H\D\N\ also (See Datasheet)", 5 GND (power) "Tie the GND pin to a local ground plane below the LT3505 and the circuit components. Return the feedback divider to this pin.", 6 RT "The RT pin is used to program the switching frequency of the LT3505 by connecting a resistor from this pin to ground. The Applications Information section of the data sheet includes a table to determine the resistance value (See Datasheet)", 7 FB (in) "The LT3505 regulates its feedback pin to 780mV. Connect the feedback resistor divider tap to this pin.", 8 VC "The VC pin is used to compensate the LT3505 control loop by tying an external RC network from this pin to ground.", 9 EP (power) "The Exposed Pad must be soldered to the PCB and electrically connected to ground. Use a large ground plane and thermal vias to optimize thermal performance."